# Altium schematic symbol library IS12.01.02.SCHLIB: 65 symbols
Pins are listed as number, name and electrical type; pins without a type are passive.

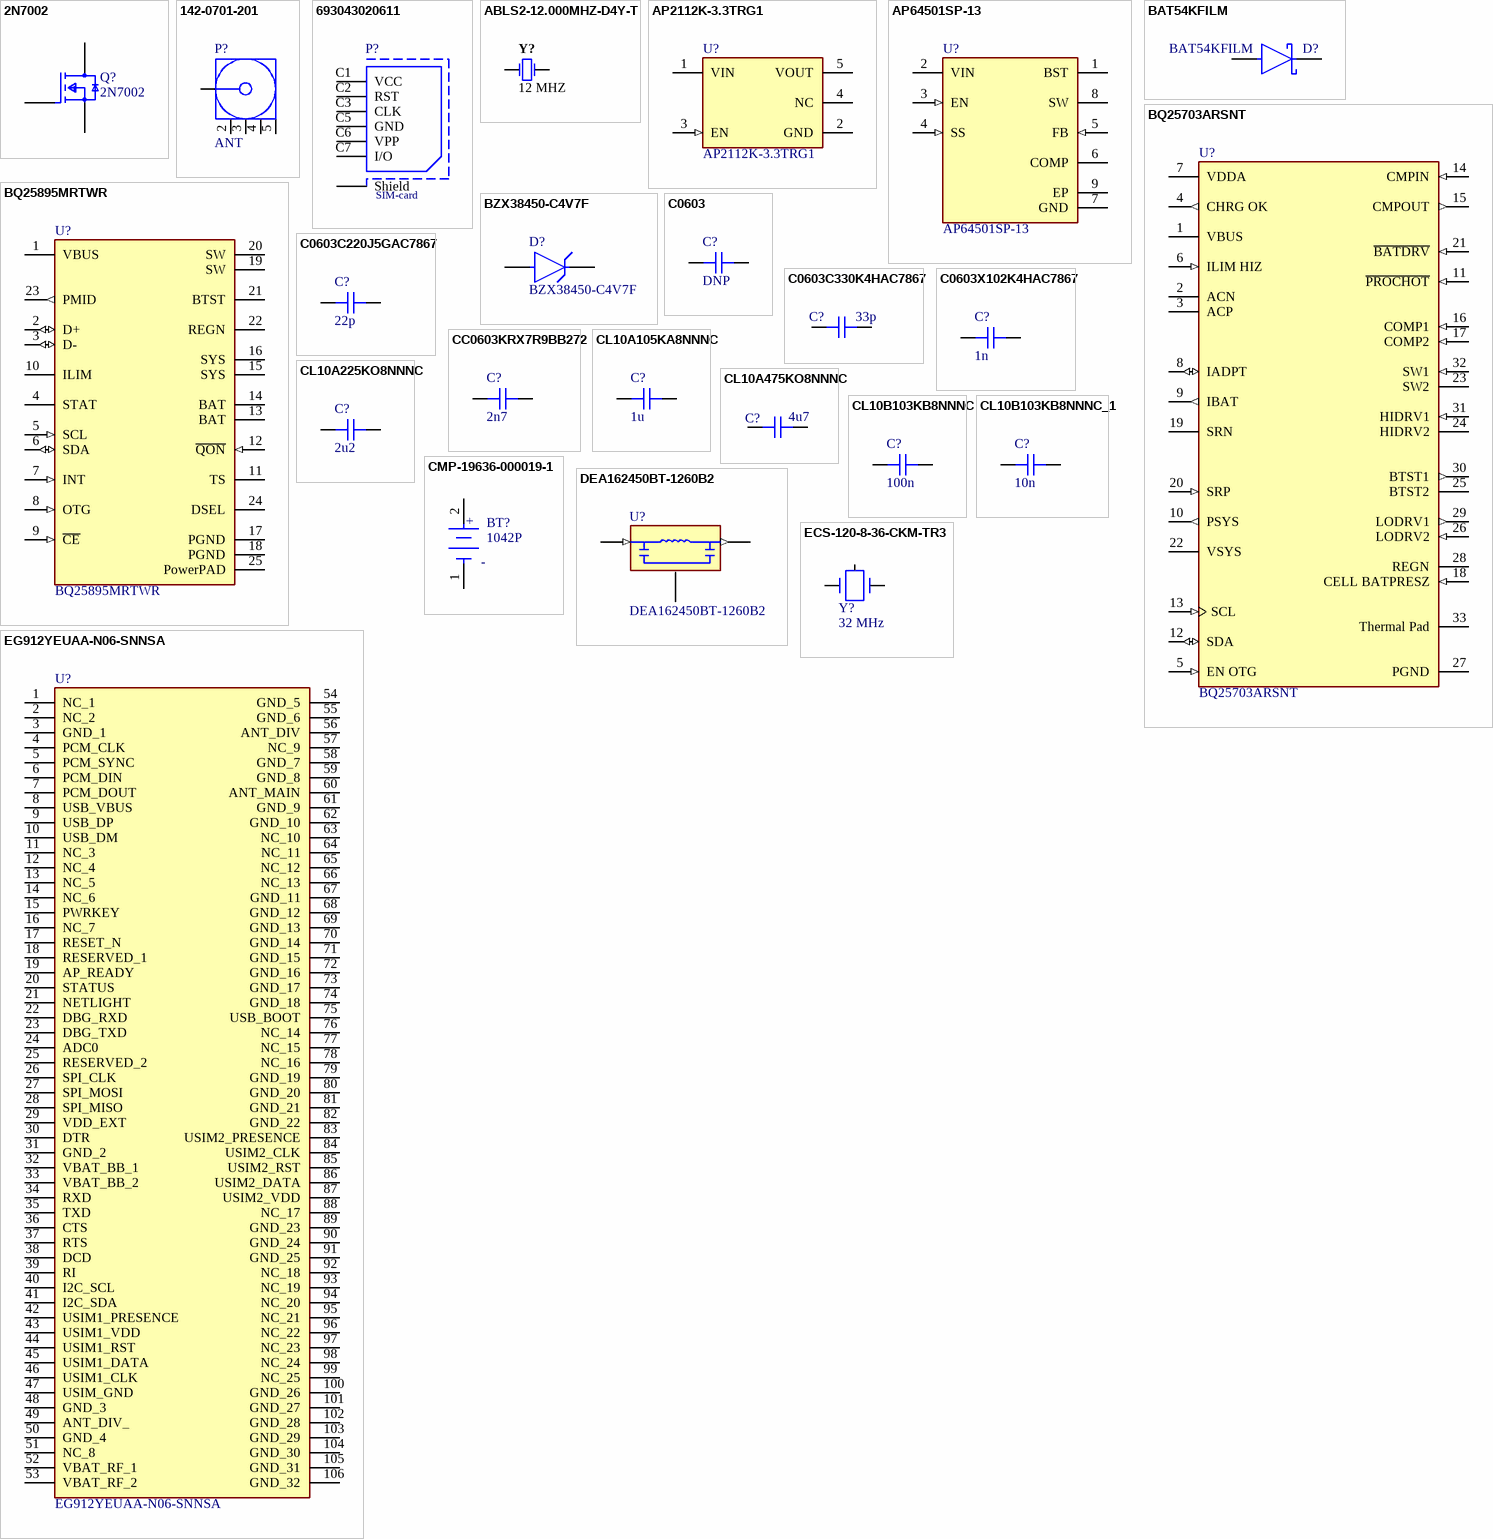
[diagram p0: symbols 2N7002 to EG912YEUAA-N06-SNNSA]

## 2N7002
designator Q?
MOSFET SOT23 N 60V 5OHM 150C; Manufacturer: Infineon; Manufacturer Part Number: IRLML2402TRPBF; Max Power Dissipation: 540mW; Gate to Source Voltage (Vgs): 12V; Drain to Source Resistance: 350mR; Rise Time: 9.5ns; Threshold Voltage: 700mV; Drain to Source Voltage (Vdss): 20V; Continuous Drain Current (ID): 1.2A; Turn-On Delay Time: 2.5ns; Input Capacitance: 110pF; Element Configuration: Single; Power Dissipation: 540W; Turn-Off Delay Time: 9.7ns; Rds On Max: 250mR; REACH SVHC: No SVHC; Mount: Surface Mount; Packaging: Tape and Reel; Height: 0.04inch; Length: 0.119inch; Contact Plating: Tin; Lead Free: Lead Free; Drain to Source Breakdown Voltage: 20V; Max Dual Supply Voltage: 20V; Number of Pins: 3; Halogen Free: Halogen Free; Max Operating Temperature: 150°C; Case/Package: SOT-23; Min Operating Temperature: -55°C; Width: 0.055inch
footprint FP-Micro3-IPC_B
pins: 1 G, 2 S, 3 D

## 142-0701-201
designator P?, comment ANT
CONN SMA JACK STR 50 OHM PCB; Manufacturer: TE Connectivity; Manufacturer Part Number: 5-1814832-1; Connector Mounting: PCBMount; Connector Body Style: StraightJack; Impedance: 50ohm; Coaxial Termination: Solder; SVHC: NoSVHC(15-Jun-2015); Frequency Max: 3GHz; Product Range: ZDCSeries; Connector Type: SMACoaxial; Datasheet Version: Rev. B1, 03/2011; Package Reference: 5-1814832-1; Package Description: SMA Connector, Pitch 5.08 mm, 1 Position, Height 9.5 mm, Tail Length 4 mm; Contact Plating: GoldPlatedContacts; Coaxial Cable Types: -; Contact Material: BerylliumCopper; Manufacturer URL: http://www.te.com/; Datasheet URL: http://www.onlinecomponents.com/productFiles/mf-AMP/eng_cd_1814832_a.pdf
footprint FP-142-0701-201-MFG (Footprint not found)
pins: 1, 2, 3, 4, 5

## 693043020611
designator P?, comment SIM-card
CONN SMART CARD PUSH-PULL; Manufacturer: Wurth Electronics; Part Number: 693043020611; Rated Current: 1A; Working Voltage: 15VAC; Withstanding Voltage: 500VAC; Datasheet URL: https://katalog.we-online.de/em/datasheet/693043020611.pdf; Operating Temperature: -25to85degC; Packaging: TapeandReel; Package Reference: 693043020611; Publisher: WurthElektronik; Manufacturer URL: http://www.we-online.de; Mounting Technology: SMT; Manufacturer Part Number: 693043020611
footprint 693043020611 (Nano SIM Card Connector Push & Pull - 6 Pins)
pins: C1 VCC, C2 RST, C3 CLK, C5 GND, C6 VPP, C7 I/O, Shield

## ABLS2-12.000MHZ-D4Y-T
designator Y?, comment 12 MHZ
CRYSTAL 12.0000MHZ 18PF SMD; Manufacturer: Fox Electronics; Manufacturer Part Number: FOXSLF/160-20; Voltage Rating: 250 V; Tolerance: 1%; Resistance: 221 kohm; Case\Package: Axial; Power Rating: 250 mW; RoHSCompliant: true; Package Quantity: 200; Packaging: Bulk; Min Operating Temperature: -55 degC; DatasheetVersion: Mar-15; ComponentLink1URL: http://www.foxonline.com/; Max Operating Temperature: 155 degC; PackageReference: FOXSLF160-20; Mount: Through Hole; PackageDescription: 2-Pin Through Hole Device, Body 11.35 x 4.65 mm; ComponentLink1Description: Manufacturer URL; ComponentLink2URL: http://www.foxonline.com/pdfs/hc49slf.pdf; ComponentLink2Description: Datasheet; Length: 0.248 inch
footprint FOX-FOXSLF160-20 (THD, 2-Leads, Body 11.35x4.65mm)
pins: 1, 2

## AP2112K-3.3TRG1
designator U?
IC REG LINEAR 3.3V 600MA SOT25; Manufacturer: Diodes; Number of Regulators: 1; Output Type: Fixed; Polarity: Positive; Min Input Voltage: 2.5V; Max Input Voltage: 6V; Accuracy: 1.5%; Quiescent Current: 55uA; Dropout Voltage: 250mV; Min Operating Temperature: -40°C; Length: 3.1mm; Output Current: 600mA; Max Operating Temperature: 85°C; Package Quantity: 1; Output Voltage: 3.3V; Width: 1.7mm; Number of Outputs: 1; Packaging: Tape and Reel; Height: 1.3mm; Lead Free: Lead Free; Max Output Current: 600mA; Case/Package: SOT-23-5; Mount: Surface Mount; Number of Pins: 5; Manufacturer Part Number: AP2112K-3.3TRG1
footprint SOT95P285X140-5N
pins: 1 VIN (power), 2 GND (power), 3 EN (in), 4 NC, 5 VOUT (power)

## AP64501SP-13
designator U?
IC REG BUCK ADJUSTABLE 5A 8SO; Manufacturer: Diodes; Manufacturer Part Number: AP64501SP-13
footprint SOIC127P600X170-9N (Footprint not found)
pins: 1 BST, 2 VIN (power), 3 EN (in), 4 SS (in), 5 FB (in), 6 COMP, 7 GND (power), 8 SW, 9 EP

## BAT54KFILM
designator D?
DIODE SCHOTTKY 40V 300MA SOD523; Manufacturer: STMicroelectronics; Capacitance: 7pF; Value: 7pF; Max Surge Forward Current: 1.25A; Peak Reverse Current: 1uA; Max Junction Temp: +150°C; Device Class L2: Diodes; Temperature Range Low: -40°C; Category: Diode; Manufacturer Part Number: BAT54KFILM; Digikey Description: DIODE SCHOTTKY 40V 300MA SOD523; Device Class L3: Schottky Diodes; Automotive: No; Height: 0.7mm; Octopart: https://octopart.com/bat54kfilm-stmicroelectronics-39618022; ComponentLink2Description: Datasheet; Temperature Range High: +150°C; Device Class L1: Discrete Semiconductors; Max Repetitive Reverse Voltage: 40V; RoHS: TRUE; Temperature: -40°C to +150°C; ComponentLink2URL: https://www.st.com/content/ccc/resource/technical/document/datasheet/07/50/54/f2/0d/ba/4a/79/CD00001322.pdf/files/CD00001322.pdf/jcr:content/translations/en.CD00001322.pdf; Lead Free: Yes; Forward Current: 300mA; Package: SOD-523; Mouser Description: Schottky Diodes & Rectifiers schottky diode
footprint SOD-523
pins: 1 C, 2 A

## BQ25703ARSNT
designator U?
IC BAT MON MULT-CHEM 1-4C 32WQFN; Manufacturer: Texas Instruments; Output Current: 6.35A; Min Supply Voltage: 3.5V; Standoff Height: 0mm; Max Supply Voltage: 24V; Max Junction Temp: +125°C; Output Voltage: 19.2V; Number Of Cells: 4; Octopart: https://octopart.com/bq25703arsnt-texas+instruments-81848930; Ambient Temperature Range Low: -40°C; Ambient Temperature Range High: +85°C; Package: RSN0032B; Mouser Description: NVDC I2C Battery Buck-Boost Charge Controller with System Power Monitor & Processor 32-QFN -40 to 85; ComponentLink2Description: Datasheet; RoHS: TRUE; Category: IC; Device Class L1: Integrated Circuits (ICs); Temperature: -40°C to +125°C; Digikey Description: IC BATT MON MULTI-CHEM 32WQFN; Height: 0.8mm; ComponentLink2URL: http://www.ti.com/lit/ds/symlink/bq25703a.pdf; Temperature Range Low: -40°C; Device Class L3: Battery Management; Automotive: No; Device Class L2: Power Management ICs; Lead Free: Yes; Temperature Range High: +125°C; Manufacturer Part Number: BQ25703ARSNT
footprint QFN50P400X400X80-25N
pins: 1 VBUS (power), 2 ACN (power), 3 ACP (power), 4 CHRG OK (out), 5 EN OTG (in), 6 ILIM HIZ (in), 7 VDDA (power), 8 IADPT (io), 9 IBAT (out), 10 PSYS (out), 11 ~{PROCHOT} (in), 12 SDA (io), 13 SCL (in), 14 CMPIN (in), 15 CMPOUT (out), 16 COMP1 (in), 17 COMP2 (in), 18 CELL BATPRESZ (in), 19 SRN (power), 20 SRP (in), 21 ~{BATDRV} (in), 22 VSYS (power), 23 SW2 (power), 24 HIDRV2 (power), 25 BTST2 (power), 26 LODRV2 (in), 27 PGND (power), 28 REGN (power), 29 LODRV1 (out), 30 BTST1 (out), 31 HIDRV1 (in), 32 SW1 (in), 33 Thermal Pad (power)

## BQ25895MRTWR
designator U?
IC BATT CHG LI-ION 1CELL 24WQFN; Manufacturer: Texas Instruments; Max Charge Current: 5A; Output Voltage: 5.5V; Interface: I2C; Number of Cells: 1; Fault Protection: Over Temperature; Max Supply Voltage: 14V; Max Operating Temperature: 85°C; Mount: Surface Mount; Contact Plating: Gold; Min Operating Temperature: -40°C; Output Current: 5A; RoHS Compliant: Yes; Lead Free: Lead Free; Packaging: Cut Tape; Number of Pins: 24; Manufacturer Part Number: BQ25895MRTWR
footprint QFN50P400X400X80-25N
pins: 1 VBUS (power), 2 D+ (io), 3 D- (io), 4 STAT (oc), 5 SCL (in), 6 SDA (io), 7 INT (in), 8 OTG (in), 9 ~{CE} (in), 10 ILIM, 11 TS, 12 ~{QON} (in), 13 BAT, 14 BAT, 15 SYS, 16 SYS, 17 PGND (power), 18 PGND (power), 19 SW, 20 SW, 21 BTST, 22 REGN, 23 PMID (out), 24 DSEL (oc), 25 PowerPAD (power)

## BZX38450-C4V7F
designator D?
BZX38450-C4V7/SOD323/SOD2; Manufacturer: Nexperia; Manufacturer Part Number: BZX384-C5V1,115
footprint FP-SOD323-MFG
pins: 1 C, 2 A

## C0603
designator C?, comment DNP
CAP CER DNP 16V X8R 0603; Supplier 1: Digi-Key; Supplier Part Number 1: 1276-2368-1-ND
footprint C-0603
pins: 1, 2

## C0603C220J5GAC7867
designator C?, comment 22p
CAP CER 22PF 50V C0G/NP0 0603; Supplier 1: Digi-Key; Supplier Part Number 1: 1276-2368-1-ND
footprint C-0603
pins: 1, 2

## C0603C330K4HAC7867
designator C?, comment 33p
CAP CER 33PF 16V X8R 0603; Supplier 1: Digi-Key; Supplier Part Number 1: 1276-2368-1-ND
footprint C-0603
pins: 1, 2

## C0603X102K4HAC7867
designator C?, comment 1n
CAP CER 0603 1NF 16V ULTRA STABL; Supplier 1: Digi-Key; Supplier Part Number 1: 1276-2368-1-ND
footprint C-0603
pins: 1, 2

## CC0603KRX7R9BB272
designator C?, comment 2n7
CAP CER 2700PF 50V X7R 0603; Supplier 1: Digi-Key; Supplier Part Number 1: 1276-2368-1-ND
footprint C-0603
pins: 1, 2

## CL10A105KA8NNNC
designator C?, comment 1u
CAP CER 1UF 25V X5R 0603; Supplier 1: Digi-Key; Supplier Part Number 1: 1276-2368-1-ND
footprint C-0603
pins: 1, 2

## CL10A225KO8NNNC
designator C?, comment 2u2
CAP CER 2.2UF 16V X5R 0603; Supplier 1: Digi-Key; Supplier Part Number 1: 1276-2368-1-ND
footprint C-0603
pins: 1, 2

## CL10A475KO8NNNC
designator C?, comment 4u7
CAP CER 4.7UF 16V X5R 0603; Supplier 1: Digi-Key; Supplier Part Number 1: 1276-2368-1-ND
footprint C-0603
pins: 1, 2

## CL10B103KB8NNNC
designator C?, comment 100n
CAP CER 1000PF 50V X7R 0603; Supplier 1: Digi-Key; Supplier Part Number 1: 1276-2368-1-ND
footprint C-0603
pins: 1, 2

## CL10B103KB8NNNC_1
designator C?, comment 10n
CAP CER 10000PF 50V X7R 0603; Supplier 1: Digi-Key; Supplier Part Number 1: 1276-2368-1-ND
footprint C-0603
pins: 1, 2

## CMP-19636-000019-1
designator BT?, comment 1042P
BATT HOLDER 18650 1 CELL SMD; Manufacturer: Keystone Electronics; Number of Cells: 1; Max Operating Temperature: 145°C; Termination: SMD/SMT; Mount: Surface Mount; Min Operating Temperature: -50°C; Package Quantity: 200; Packaging: Tray; Lead Free: Lead Free; Manufacturer Part Number: 1042P
footprint FP-1042P-MFG
pins: 1 C, 2 A
text: +; -

## DEA162450BT-1260B2
designator U?
RF FILTER BAND PASS 2.45GHZ 0603; MP: DEA162450BT-1288B1; Package: None; Price: None; Value: *; Availability: Unavailable
footprint FIL_DEA162450BT-1288B1 (Footprint not found)
pins: 1 IN (in), 2 GND (power), 3 OUT (out)

## ECS-120-8-36-CKM-TR3
designator Y?, comment 32 MHz
CRYSTAL 12.0000MHZ 8PF SMD; Supplier 1: Digi-Key; Supplier Part Number 1: 535-9116-1-ND
footprint SMD-4 (4.5x3.2) (4.5mm x 3.2mm)
pins: 1, 2, 3

## EG912YEUAA-N06-SNNSA
designator U?
RF TXRX MOD CELLULAR SMD; Manufacturer_Name: Quectel; Geometry.Height: 2.5mm; Manufacturer_Part_Number: EG912YEUAA-N06-SNNSA; Mouser Part Number: 277-EG912YEUAN6SNNSA; Mouser Price/Stock: https://www.mouser.co.uk/ProductDetail/Quectel/EG912YEUAA-N06-SNNSA?qs=zW32dvEIR3tlKTTxnXn4Aw%3D%3D; Arrow Part Number: EG912YEUAA-N06-SNNSA; Arrow Price/Stock: https://www.arrow.com/en/products/eg912yeuaa-n06-snnsa/quectel-wireless-solutions-co-ltd?region=nac; Datasheet Link: *
footprint EG912YEUAAN06SNNSA
pins: 1 NC_1, 2 NC_2, 3 GND_1, 4 PCM_CLK, 5 PCM_SYNC, 6 PCM_DIN, 7 PCM_DOUT, 8 USB_VBUS, 9 USB_DP, 10 USB_DM, 11 NC_3, 12 NC_4, 13 NC_5, 14 NC_6, 15 PWRKEY, 16 NC_7, 17 RESET_N, 18 RESERVED_1, 19 AP_READY, 20 STATUS, 21 NETLIGHT, 22 DBG_RXD, 23 DBG_TXD, 24 ADC0, 25 RESERVED_2, 26 SPI_CLK, 27 SPI_MOSI, 28 SPI_MISO, 29 VDD_EXT, 30 DTR, 31 GND_2, 32 VBAT_BB_1, 33 VBAT_BB_2, 34 RXD, 35 TXD, 36 CTS, 37 RTS, 38 DCD, 39 RI, 40 I2C_SCL, 41 I2C_SDA, 42 USIM1_PRESENCE, 43 USIM1_VDD, 44 USIM1_RST, 45 USIM1_DATA, 46 USIM1_CLK, 47 USIM_GND, 48 GND_3, 49 ANT_DIV_, 50 GND_4, 51 NC_8, 52 VBAT_RF_1, 53 VBAT_RF_2, 54 GND_5, 55 GND_6, 56 ANT_DIV, 57 NC_9, 58 GND_7, 59 GND_8, 60 ANT_MAIN, 61 GND_9, 62 GND_10, 63 NC_10, 64 NC_11, 65 NC_12, 66 NC_13, 67 GND_11, 68 GND_12, 69 GND_13, 70 GND_14, 71 GND_15, 72 GND_16, 73 GND_17, 74 GND_18, 75 USB_BOOT, 76 NC_14, 77 NC_15, 78 NC_16, 79 GND_19, 80 GND_20, 81 GND_21, 82 GND_22, 83 USIM2_PRESENCE, 84 USIM2_CLK, 85 USIM2_RST, 86 USIM2_DATA, 87 USIM2_VDD, 88 NC_17, 89 GND_23, 90 GND_24, 91 GND_25, 92 NC_18, 93 NC_19, 94 NC_20, 95 NC_21, 96 NC_22, 97 NC_23, 98 NC_24, 99 NC_25, 100 GND_26, 101 GND_27, 102 GND_28, 103 GND_29, 104 GND_30, 105 GND_31, 106 GND_32

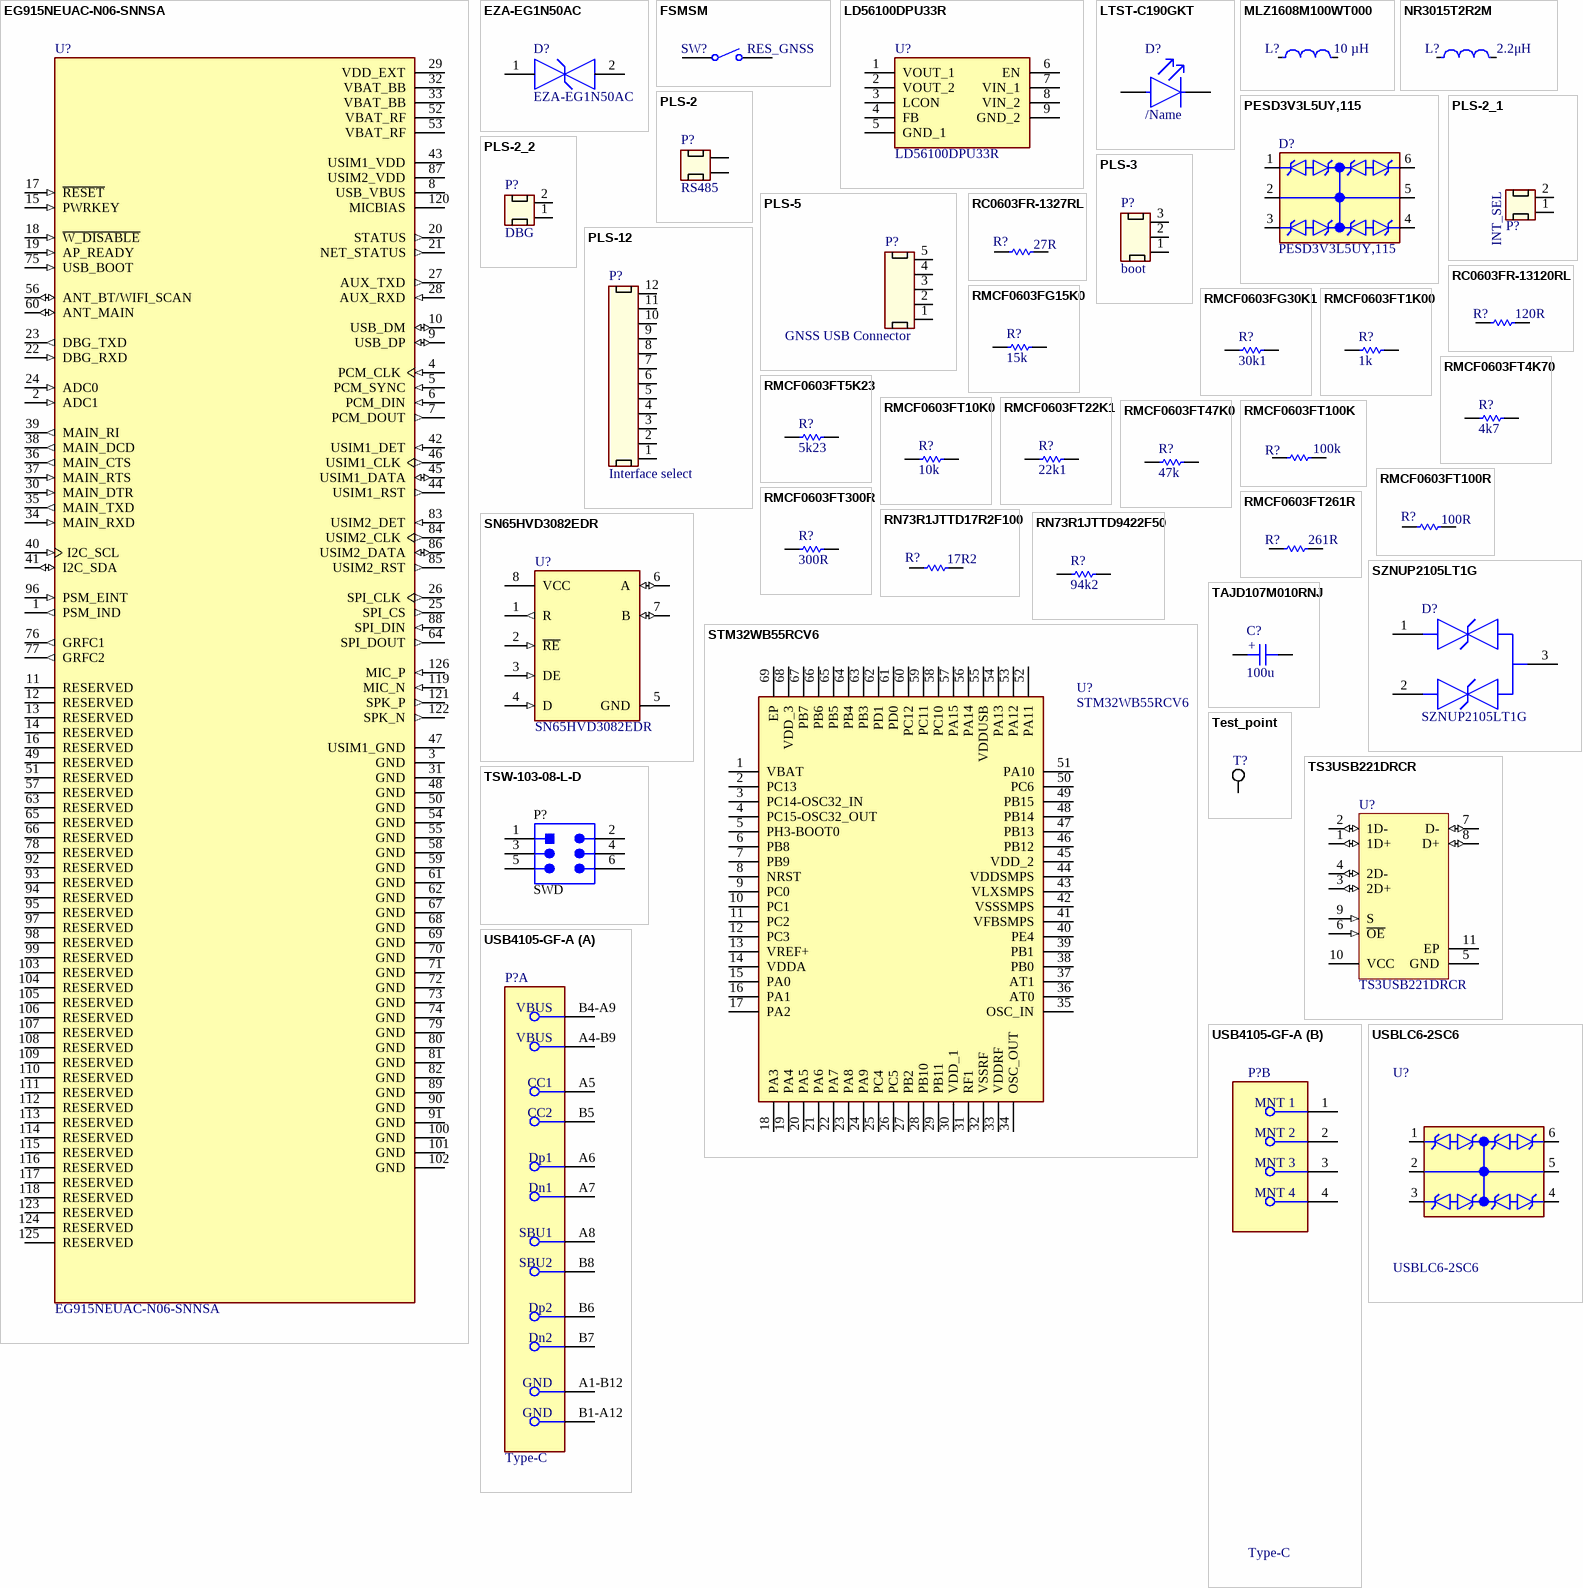
[diagram p1: symbols EG915NEUAC-N06-SNNSA to USBLC6-2SC6]

## EG915NEUAC-N06-SNNSA
designator U?
Linear IC; MF: Quectel; MP: EG915NEUAC-N06-SNNSA; Package: NON-STANDARD-126 Quectel; Availability: In Stock; Value: *; Price: None; Check_prices: https://www.snapeda.com/parts/EG915NEUAC-N06-SNNSA/Quectel/view-part/?ref=eda; SnapEDA_Link: https://www.snapeda.com/parts/EG915NEUAC-N06-SNNSA/Quectel/view-part/?ref=snap
footprint XCVR_EG915NEUAC-N06-SNNSA
pins: 1 PSM_IND (out), 2 ADC1 (in), 3 GND (power), 4 PCM_CLK (in), 5 PCM_SYNC (in), 6 PCM_DIN (in), 7 PCM_DOUT (out), 8 USB_VBUS (power), 9 USB_DP (io), 10 USB_DM (io), 11 RESERVED, 12 RESERVED, 13 RESERVED, 14 RESERVED, 15 PWRKEY (in), 16 RESERVED, 17 ~{RESET} (in), 18 ~{W_DISABLE} (in), 19 AP_READY (in), 20 STATUS (out), 21 NET_STATUS (out), 22 DBG_RXD (in), 23 DBG_TXD (out), 24 ADC0 (in), 25 SPI_CS (out), 26 SPI_CLK (out), 27 AUX_TXD (out), 28 AUX_RXD (in), 29 VDD_EXT (power), 30 MAIN_DTR (in), 31 GND (power), 32 VBAT_BB (power), 33 VBAT_BB (power), 34 MAIN_RXD (in), 35 MAIN_TXD (out), 36 MAIN_CTS (out), 37 MAIN_RTS (in), 38 MAIN_DCD (out), 39 MAIN_RI (out), 40 I2C_SCL (in), 41 I2C_SDA (io), 42 USIM1_DET (in), 43 USIM1_VDD (power), 44 USIM1_RST (out), 45 USIM1_DATA (io), 46 USIM1_CLK (out), 47 USIM1_GND (power), 48 GND (power), 49 RESERVED, 50 GND (power), 51 RESERVED, 52 VBAT_RF (power), 53 VBAT_RF (power), 54 GND (power), 55 GND (power), 56 ANT_BT/WIFI_SCAN (io), 57 RESERVED, 58 GND (power), 59 GND (power), 60 ANT_MAIN (io), 61 GND (power), 62 GND (power), 63 RESERVED, 64 SPI_DOUT (out), 65 RESERVED, 66 RESERVED, 67 GND (power), 68 GND (power), 69 GND (power), 70 GND (power), 71 GND (power), 72 GND (power), 73 GND (power), 74 GND (power), 75 USB_BOOT (in), 76 GRFC1 (out), 77 GRFC2 (out), 78 RESERVED, 79 GND (power), 80 GND (power), 81 GND (power), 82 GND (power), 83 USIM2_DET (in), 84 USIM2_CLK (out), 85 USIM2_RST (out), 86 USIM2_DATA (io), 87 USIM2_VDD (power), 88 SPI_DIN (in), 89 GND (power), 90 GND (power), 91 GND (power), 92 RESERVED, 93 RESERVED, 94 RESERVED, 95 RESERVED, 96 PSM_EINT (in), 97 RESERVED, 98 RESERVED, 99 RESERVED, 100 GND (power), 101 GND (power), 102 GND (power), 103 RESERVED, 104 RESERVED, 105 RESERVED, 106 RESERVED, 107 RESERVED, 108 RESERVED, 109 RESERVED, 110 RESERVED, 111 RESERVED, 112 RESERVED, 113 RESERVED, 114 RESERVED, 115 RESERVED, 116 RESERVED, 117 RESERVED, 118 RESERVED, 119 MIC_N (in), 120 MICBIAS (power), 121 SPK_P (out), 122 SPK_N (out), 123 RESERVED, 124 RESERVED, 125 RESERVED, 126 MIC_P (in)

## EZA-EG1N50AC
designator D?
ESD SUPPRESSOR 0201; Manufacturer: Panasonic; Varistor Voltage: 30V; Number of Circuits: 1; Series: -; Case Code (Imperial): 0201; Packaging: Cut Tape; Mount: Surface Mount; Case/Package: 0201; Case Code (Metric): 0603; Manufacturer Part Number: EZA-EG1N50AC
footprint FP-EZAEG1-MFG
pins: 1, 2

## FSMSM
designator SW?, comment RES_GNSS
SWITCH TACTILE SPST-NO 0.05A 24V; Manufacturer: TE Connectivity; Manufacturer Part Number: FSMSMTR; Electrical Life: 20000Cycles; Operating Force: 180gf; Switch Travel: 0.25mm; Contact Current Rating: 50mA; Case\/Package: SMD/SMT; Actuator Length: 1.07mm; Throw Configuration: SPST; Actuator Material: Polyamide; Contact Resistance: 100mOhm; Illumination Type: Illuminated; Max Voltage Rating (DC): 12V; Voltage Rating (DC): 24V; Manufacturer URL: http://www.te.com/; Lead Free: LeadFree; Packaging: TapeandReel; Min Operating Temperature: -35degC; Mechanical Life: 20000Cycles; Mount: SurfaceMount; REACH SVHC: Unknown; Package Quantity: 1800; Package Reference: FSMSMTR; RoHSCompliant: true; Max Operating Temperature: 85degC; Orientation: Straight; ELV: Compliant; Datasheet URL: http://www.te.com/commerce/DocumentDelivery/DDEController?Action=showdoc&DocId=Customer+Drawing%7F1437566-3%7FC2%7Fpdf%7FEnglish%7FENG_CD_1437566-3_C2_1437566_3_1_c.dwg.pdf%7F1437566-4; Package Description: 2-Pin Surface Mount Device, Body 6 x 3.5 mm, Pitch 9.19 mm; Current Rating: 50mA; Contact Plating: Silver; Termination: GullWing; Datasheet Version: Rev. C2, 08/2014; Contact Material: Brass; Mounting Technology: SurfaceMount
footprint TECO-FSMSMTR_V (SMD, 2-Leads, Body 6x3.5mm, Pitch 9.19mm)
pins: 1, 2

## LD56100DPU33R
designator U?
IC REG LINEAR 3.3V 1A 8DFN; Manufacturer_Name: STMicroelectronics; Geometry.Height: 1mm; Mouser Part Number: 511-LD56100DPU33R; Mouser Price/Stock: https://www.mouser.co.uk/ProductDetail/STMicroelectronics/LD56100DPU33R?qs=lYGu3FyN48ervycZizbDLw%3D%3D; Manufacturer_Part_Number: LD56100DPU33R; Datasheet Link: https://componentsearchengine.com/Datasheets/1/LD56100DPU33R.pdf
footprint LD56100DPU33R
pins: 1 VOUT_1, 2 VOUT_2, 3 LCON, 4 FB, 5 GND_1, 6 EN, 7 VIN_1, 8 VIN_2, 9 GND_2

## LTST-C190GKT
designator D?, comment /Name
LED GREEN CLEAR CHIP SMD; Manufacturer: Vishay Lite-On; Manufacturer Part Number: LTST-C191TBKT; Lens Color: Colorless; Dominant Wavelength: 475nm; Forward Current: 20mA; Wavelength: 468nm; Viewing Angle: 130°; Power Dissipation: 76mW; Illumination Color: Blue; Luminous Intensity: 180mcd; Reverse Voltage: 5V; Number of Elements: 1; Lens Style: Diffused; Forward Voltage: 3.8V; Max Power Dissipation: 75mW; Case Code (Metric): 1608; Packaging: Tape and Reel; Case/Package: 0603; Depth: 1.6mm; Mount: Surface Mount; Lead Free: Lead Free; Min Operating Temperature: -20°C; Lens Transparency: Clear; Height: 0.55mm; Test Current: 20mA; Case Code (Imperial): 0603; Max Operating Temperature: 80°C; Number of Pins: 2; Length: 0.8mm; Radiation Hardening: No; Package Quantity: 1; Number of LEDs: 1; Width: 0.8mm; Color: Blue
footprint FP-LTST-C191TBKT-MFG
pins: 1 C, 2 A

## MLZ1608M100WT000
designator L?, comment 10 µH
FIXED IND 10UH 250MA 1.05OHM SMD; Manufacturer: Taiyo Yuden; Manufacturer Part Number: LBMF1608T100M; Current Rating: 80mA; Shielding: Unshielded; Self Resonant Frequency: 32MHz; Core Material: Ferrite; Tolerance: 20%; DC Resistance (DCR): 360mR; Test Frequency: 2.52MHz; Inductance: 10uH; Min Operating Temperature: -40°C; Halogen Free: Halogen Free; Termination: SMD/SMT; Height - Seated (Max): 0.039inch; Case Code (Metric): 1608; DC Current: 80mA; Resistor Type: Wirewound; Lead Free: Lead Free; Radiation Hardening: No; Packaging: Tape and Reel; Length: 0.063inch; Lead Pitch: 0.7mm; Series: LB; Max Operating Temperature: 105°C; Weight: 7.1E-05oz; Height: 0.35mm; Military Standard: Not; Case Code (Imperial): 0603; Case/Package: 0603; Depth: 0.9mm; RoHS Compliant: Yes; Mount: Surface Mount; Width: 0.031inch; Max DC Current: 80mA
footprint FP-MLZ1608-IPC_A (Footprint not found)
pins: 1, 2

## NR3015T2R2M
designator L?, comment 2.2μH
FIXED IND 2.2UH 1.5A 72 MOHM SMD; Manufacturer: Taiyo Yuden; Manufacturer Part Number: NR6028T2R2N; Core Material: Ferrite; RMS Current (Irms): 3.7A; Tolerance: 30%; Test Frequency: 100kHz; DC Resistance (DCR): 26mR; Saturation Current: 4.2A; Self Resonant Frequency: 68MHz; Shielding: Shielded; Width: 0.236inch; Package Quantity: 2000; Case/Package: 2424; Length: 0.236inch; Height: 2.8mm; Height - Seated (Max): 0.11inch; Current Rating: 3.7A; Termination: SMD/SMT; Inductance Tolerance: 30%; Depth: 6.2mm; Halogen Free: Halogen Free; Mount: Surface Mount; Series: NR; Max DC Current: 3.7A; Number of Pins: 2; Min Operating Temperature: -25°C; Inductance: 2.2uH; Max Operating Temperature: 120°C; Packaging: Tape and Reel; Radiation Hardening: No; RoHS Compliant: Yes; Resistor Type: Wirewound
footprint FP-NR3015-MFG
pins: 1, 2

## PESD3V3L5UY,115
designator D?
TVS DIODE 3.3VWM 12VC 6TSSOP; MP: ESDA6V1BC6; MF: STMicroelectronics; Check_prices: https://www.snapeda.com/parts/ESDA6V1BC6/STMicroelectronics/view-part/?ref=eda; Price: None; Purchase-URL: https://pricing.snapeda.com/search/part/ESDA6V1BC6/?ref=eda; SnapEDA_Link: https://www.snapeda.com/parts/ESDA6V1BC6/STMicroelectronics/view-part/?ref=snap; Availability: In Stock; Package: SOT-23-6 STMicroelectronics; Value: *
footprint SOT95P280X145-6N
pins: 1 C1, 2 CC1, 3 C2, 4 C3, 5 CC2, 6 C4

## PLS-2
designator P?, comment RS485
PLS-2, вилка штыревая 2.54мм
footprint PLS-2
pins: 1, 2

## PLS-2_1
designator P?, comment INT_SEL
PLS-2, вилка штыревая 2.54мм
footprint PLS-2
pins: 1, 2

## PLS-2_2
designator P?, comment DBG
PLS-2, вилка штыревая 2.54мм
footprint PLS-2
pins: 1, 2

## PLS-3
designator P?, comment boot
PLS-3, вилка штыревая 2.54мм
footprint PLS-3
pins: 1, 2, 3

## PLS-5
designator P?, comment GNSS USB Connector
PLS-5, вилка штыревая 2.54мм
footprint PLS-5
pins: 1, 2, 3, 4, 5

## PLS-12
designator P?, comment Interface select
PLS-12, вилка штыревая 2.54мм
footprint PLS-12
pins: 1, 2, 3, 4, 5, 6, 7, 8, 9, 10, 11, 12

## RC0603FR-1327RL
designator R?, comment 27R
RES 27 OHM 1% 1/10W 0603; Supplier 1: Digi-Key; Supplier Part Number 1: 541-4.7KSACT-ND
footprint R-0603 (Chip Capacitor, 2-Leads, Body 1,60x0,83mm, IPC Medium Density)
pins: 1, 2

## RC0603FR-13120RL
designator R?, comment 120R
RES 120 OHM 1% 1/10W 0603v; Supplier 1: Digi-Key; Supplier Part Number 1: 541-4.7KSACT-ND
footprint R-0603 (Chip Capacitor, 2-Leads, Body 1,60x0,83mm, IPC Medium Density)
pins: 1, 2

## RMCF0603FG15K0
designator R?, comment 15k
RES 15K OHM 1% 1/10W 0603; Supplier 1: Digi-Key; Supplier Part Number 1: 541-4.7KSACT-ND
footprint R-0603 (Chip Capacitor, 2-Leads, Body 1,60x0,83mm, IPC Medium Density)
pins: 1, 2

## RMCF0603FG30K1
designator R?, comment 30k1
RES 30.1K OHM 1% 1/10W 0603; Supplier 1: Digi-Key; Supplier Part Number 1: 541-4.7KSACT-ND
footprint R-0603 (Chip Capacitor, 2-Leads, Body 1,60x0,83mm, IPC Medium Density)
pins: 1, 2

## RMCF0603FT1K00
designator R?, comment 1k
RES 1K OHM 1% 1/10W 0603; Supplier 1: Digi-Key; Supplier Part Number 1: 541-4.7KSACT-ND
footprint R-0603 (Chip Capacitor, 2-Leads, Body 1,60x0,83mm, IPC Medium Density)
pins: 1, 2

## RMCF0603FT4K70
designator R?, comment 4k7
RES 4.7K OHM 1% 1/10W 0603; Supplier 1: Digi-Key; Supplier Part Number 1: 541-4.7KSACT-ND
footprint R-0603 (Chip Capacitor, 2-Leads, Body 1,60x0,83mm, IPC Medium Density)
pins: 1, 2

## RMCF0603FT5K23
designator R?, comment 5k23
RES 5.23K OHM 1% 1/10W 0603; Supplier 1: Digi-Key; Supplier Part Number 1: 541-4.7KSACT-ND
footprint R-0603 (Chip Capacitor, 2-Leads, Body 1,60x0,83mm, IPC Medium Density)
pins: 1, 2

## RMCF0603FT10K0
designator R?, comment 10k
RES 10K OHM 1% 1/10W 0603; Supplier 1: Digi-Key; Supplier Part Number 1: 541-4.7KSACT-ND
footprint R-0603 (Chip Capacitor, 2-Leads, Body 1,60x0,83mm, IPC Medium Density)
pins: 1, 2

## RMCF0603FT22K1
designator R?, comment 22k1
RES 22.1K OHM 1% 1/10W 0603; Supplier 1: Digi-Key; Supplier Part Number 1: 541-4.7KSACT-ND
footprint R-0603 (Chip Capacitor, 2-Leads, Body 1,60x0,83mm, IPC Medium Density)
pins: 1, 2

## RMCF0603FT47K0
designator R?, comment 47k
RES 47K OHM 1% 1/10W 0603; Supplier 1: Digi-Key; Supplier Part Number 1: 541-4.7KSACT-ND
footprint R-0603 (Chip Capacitor, 2-Leads, Body 1,60x0,83mm, IPC Medium Density)
pins: 1, 2

## RMCF0603FT100K
designator R?, comment 100k
RES 100K OHM 1% 1/10W 0603; Supplier 1: Digi-Key; Supplier Part Number 1: 541-4.7KSACT-ND
footprint R-0603 (Chip Capacitor, 2-Leads, Body 1,60x0,83mm, IPC Medium Density)
pins: 1, 2

## RMCF0603FT100R
designator R?, comment 100R
RES 100 OHM 1% 1/10W 0603; Supplier 1: Digi-Key; Supplier Part Number 1: 541-4.7KSACT-ND
footprint R-0603 (Chip Capacitor, 2-Leads, Body 1,60x0,83mm, IPC Medium Density)
pins: 1, 2

## RMCF0603FT261R
designator R?, comment 261R
RES 261 OHM 1% 1/10W 0603; Supplier 1: Digi-Key; Supplier Part Number 1: 541-4.7KSACT-ND
footprint R-0603 (Chip Capacitor, 2-Leads, Body 1,60x0,83mm, IPC Medium Density)
pins: 1, 2

## RMCF0603FT300R
designator R?, comment 300R
RES 300 OHM 1% 1/10W 0603; Supplier 1: Digi-Key; Supplier Part Number 1: 541-4.7KSACT-ND
footprint R-0603 (Chip Capacitor, 2-Leads, Body 1,60x0,83mm, IPC Medium Density)
pins: 1, 2

## RN73R1JTTD17R2F100
designator R?, comment 17R2
RES 17.2 OHM 1% 1/10W 0603; Supplier 1: Digi-Key; Supplier Part Number 1: 541-4.7KSACT-ND
footprint R-0603 (Chip Capacitor, 2-Leads, Body 1,60x0,83mm, IPC Medium Density)
pins: 1, 2

## RN73R1JTTD9422F50
designator R?, comment 94k2
RES 94.2K OHM 1% 1/10W 0603; Supplier 1: Digi-Key; Supplier Part Number 1: 541-4.7KSACT-ND
footprint R-0603 (Chip Capacitor, 2-Leads, Body 1,60x0,83mm, IPC Medium Density)
pins: 1, 2

## SN65HVD3082EDR
designator U?
IC TRANSCEIVER HALF 1/1 8SOIC; Manufacturer: Texas Instruments; Data Rate: 0.2Mbits/s; Standoff Height: 0.11mm; Max Junction Temp: +130°C; Number Of Transmitters: 1; Nominal Supply Current: 300-425uA; Min Supply Voltage: 4.5V; Simplex Duplex: Half Duplex; Max Supply Voltage: 5.5V; Interface: RS-485,RS-422; Lead Free: Yes; Temperature Range High: +85°C; Ambient Temperature Range High: +105°C; Octopart: https://octopart.com/sn65hvd3082edr-texas+instruments-712058; Automotive: No; Ambient Temperature Range Low: -40°C; RoHS: TRUE; Device Class L2: Interface ICs; Mouser Description: RS-485 Interface IC Low-Power RS-485 Transceiver; Package: D0008A; Digikey Description: IC TRANSCEIVER HALF 1/1 8SOIC; Device Class L1: Integrated Circuits (ICs); Height: 1.75mm; ComponentLink2Description: Datasheet; Category: IC; Temperature Range Low: -40°C; Number Of Receivers: 1; Device Class L3: RS-232 / RS-422 / RS-485 Interface ICs; Ipc Land Pattern Name: SOIC127P600X175-8; ComponentLink2URL: http://www.ti.com/lit/ds/symlink/sn65hvd3082e.pdf; Temperature: -40°C to +85°C; Manufacturer Part Number: SN65HVD3082EDR
footprint FP-SO-8-MFG
pins: 1 R (out), 2 ~{RE} (in), 3 DE (in), 4 D (in), 5 GND (power), 6 A (io), 7 B (io), 8 VCC (power)

## STM32WB55RCV6
designator U?
ULTRA-LOW-POWER DUAL CORE ARM CO; Manufacturer_Name: STMicroelectronics; Geometry.Height: 1mm; Manufacturer_Part_Number: STM32WB55RCV6; Mouser Part Number: 511-STM32WB55RCV6; Mouser Price/Stock: https://www.mouser.co.uk/ProductDetail/STMicroelectronics/STM32WB55RCV6?qs=vLWxofP3U2y%2F21YKkPUpfQ%3D%3D; Arrow Part Number: STM32WB55RCV6; Arrow Price/Stock: https://www.arrow.com/en/products/stm32wb55rcv6/stmicroelectronics?region=nac; Datasheet Link: https://www.mouser.com/datasheet/2/389/stm32wb55rc-1588898.pdf
footprint QFN40P800X800X100-69N-D
pins: 1 VBAT, 2 PC13, 3 PC14-OSC32_IN, 4 PC15-OSC32_OUT, 5 PH3-BOOT0, 6 PB8, 7 PB9, 8 NRST, 9 PC0, 10 PC1, 11 PC2, 12 PC3, 13 VREF+, 14 VDDA, 15 PA0, 16 PA1, 17 PA2, 18 PA3, 19 PA4, 20 PA5, 21 PA6, 22 PA7, 23 PA8, 24 PA9, 25 PC4, 26 PC5, 27 PB2, 28 PB10, 29 PB11, 30 VDD_1, 31 RF1, 32 VSSRF, 33 VDDRF, 34 OSC_OUT, 35 OSC_IN, 36 AT0, 37 AT1, 38 PB0, 39 PB1, 40 PE4, 41 VFBSMPS, 42 VSSSMPS, 43 VLXSMPS, 44 VDDSMPS, 45 VDD_2, 46 PB12, 47 PB13, 48 PB14, 49 PB15, 50 PC6, 51 PA10, 52 PA11, 53 PA12, 54 PA13, 55 VDDUSB, 56 PA14, 57 PA15, 58 PC10, 59 PC11, 60 PC12, 61 PD0, 62 PD1, 63 PB3, 64 PB4, 65 PB5, 66 PB6, 67 PB7, 68 VDD_3, 69 EP

## SZNUP2105LT1G
designator D?
TVS DIODE 24VWM 44VC SOT23-3; Manufacturer: ON Semiconductor; Reverse Standoff Voltage: 24V; Capacitance: 30pF; Max Junction Temp: +150°C; Breakdown Voltage: 26.2V; Number Of Channels: 2; Automotive Grade: Grade 0; Standoff Height: 0.01mm; Peak Pulse Current: 8A; Value: 30pF; Direction: Bidirectional; Peak Pulse Power: 350W; Clamping Voltage: 44V; Octopart: https://octopart.com/sznup2105lt1g-on+semiconductor-22134626; Digikey Description: TVS DIODE 24V 44V SOT23-3; RoHS: TRUE; Manufacturer Part Number: SZNUP2105LT1G; Height: 1.11mm; Automotive: Yes; ComponentLink2URL: https://www.onsemi.com/pub/Collateral/NUP2105L-D.PDF; Device Class L3: unset; Package: 318-08; Lead Free: Yes; Device Class L2: TVS Diodes; Footprint Url: https://www.onsemi.com/pub/Collateral/318-08.PDF; Temperature Range Low: -55°C; Device Class L1: Circuit Protection; Temperature: -55°C to +150°C; Temperature Range High: +150°C; Category: Diode; ComponentLink2Description: Datasheet
footprint FP-Micro3-IPC_B (Footprint not found)
pins: 1, 2, 3

## TAJD107M010RNJ
designator C?, comment 100u
CAP TANT 100UF 20% 10V 2917; Supplier 1: Digi-Key; Supplier Part Number 1: 399-18160-1-ND
footprint A-TANTAL-A
pins: 1, 2
text: +

## Test_point
designator T?  (value not drawn)
Test point (DNP)
footprint test_point
pins: 1

## TS3USB221DRCR
designator U?
IC USB SWITCH DUAL 1X2 10SON; Manufacturer: Texas Instruments; Number of Channels: 2; ON Time(Max)(ns): 30; RON Mis-match(Max)(Ohms): 0.2; Vcc range(V): 2.3 to 3.6; tpd max(ns): 0.25; OFF Time(Max)(ns): 12; ron(max)(ohms): 6; ESD HBM(kV): +/-2; Architecture: "1","2 mux/demux"; Eco-Plan: Green (RoHS & no Sb/Br); RON Flatness(Max)(Ohms): 1; Bandwidth(MHz): 1200; IL OFF(Max)(nA): 2; SubFamily: USB Switch; PackageVersion: revL, Sep-2011; Mounting Technology: Surface Mount; ICC(uA): 30; DatasheetVersion: SCDS220G; PartNumber: TS3USB221DRCR; Charge Injection(Max)(pC): N/A; ComponentLink1Description: Datasheet; PackageDescription: 10-Pin Plastic Small Outline No-Lead, 3 x 3 x 1 mm Body, 0.5 mm Pitch, Exposed Pad; ComponentLink2URL: http://www.ti.com/litv/pdf/mpds117k; ComponentLink2Description: Package Specification; ComponentLink1URL: http://www.ti.com/general/docs/lit/getliterature.tsp?genericPartNumber=TS3USB221&fileType=pdf; PackageReference: DRC0010J; Manufacturer Part Number: TS3USB221DRCR
footprint SON50P300X300X100-11N
pins: 1 1D+ (io) "Bus B", 2 1D- (io) "Bus B", 3 2D+ (io) "Bus B", 4 2D- (io) "Bus B", 5 GND (power) "ground", 6 ~{OE} (in) "Bus-switch enable", 7 D- (io) "Bus A", 8 D+ (io) "Bus A", 9 S (in) "Select input", 10 VCC (power) "supply voltage", 11 EP "Exposed pad"

## TSW-103-08-L-D
designator P?, comment SWD
CONN HEADER VERT 6POS 2.54MM; Manufacturer: Samtec; Manufacturer Part Number: TSW-103-08-L-D; DatasheetVersion: 04/2012; ComponentLink3URL: http://suddendocs.samtec.com/prints/tsw-xxx-xx-x-x-xx-xxx-footprint.pdf; PackageReference: TSW-103-08-L-D; Mounting Technology: Through Hole; Min Operating Temperature: -55 degC; ComponentLink2Description: Datasheet; Lead Pitch: 2.54 mm; ComponentLink1Description: Manufacturer URL; Mount: Through Hole; ComponentLink1URL: http://www.samtec.com/; ComponentLink3Description: Package Specification; Max Operating Temperature: 125 degC; PackageDescription: Male Header, Pitch 2.54 mm, 2 x 3 Position, Height 8.38 mm, Tail Length 5.08 mm; ComponentLink2URL: https://datasheet.ciiva.com/25618/0900766b81154476-25618436.pdf; RoHSCompliant: true
footprint SMTC-TSW-103-08-L-D_V (CONN, 6-Leads, Body 7.62x5.08mm, Pitch 2.54mm)
pins: 1, 2, 3, 4, 5, 6

## USB4105-GF-A
designator P?, comment Type-C
CONN RCP USB2.0 TYP C 24P SMD RA; Manufacturer: Molex; Manufacturer Part Number: 217179-0001
footprint FP-217179-0001-MFG
part A pins: A1-B12 GND (power), A4-B9 VBUS (power), A5 CC1, A6 Dp1, A7 Dn1, A8 SBU1, B1-A12 GND (power), B4-A9 VBUS (power), B5 CC2, B6 Dp2, B7 Dn2, B8 SBU2
part B pins: 1 MNT 1, 2 MNT 2, 3 MNT 3, 4 MNT 4

## USBLC6-2SC6
designator U?
TVS DIODE 5.25VWM 17VC SOT23-6; MF: STMicroelectronics; Value: *; SnapEDA_Link: https://www.snapeda.com/parts/USBLC6-2SC6/STMicroelectronics/view-part/?ref=snap; Check_prices: https://www.snapeda.com/parts/USBLC6-2SC6/STMicroelectronics/view-part/?ref=eda; Purchase-URL: https://pricing.snapeda.com/search/part/USBLC6-2SC6/?ref=eda; Price: None; Availability: In Stock; Package: SOT-23-6 STMicroelectronics; MP: USBLC6-2SC6
footprint SOT95P280X145-6N
pins: 1 C1, 2 CC1, 3 C2, 4 C3, 5 CC2, 6 C4

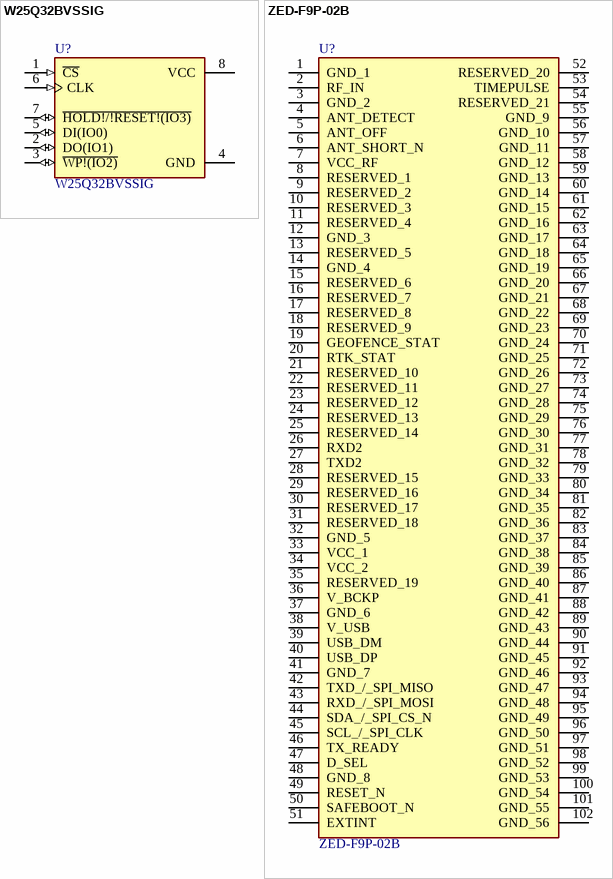
[diagram p2: symbols W25Q32BVSSIG to ZED-F9P-02B]

## W25Q32BVSSIG
designator U?
IC FLASH 32MBIT SPI/QUAD 8SOIC; MF: Winbond Electronics; Availability: Unavailable; SnapEDA_Link: https://www.snapeda.com/parts/W25Q32BVSSIG/Winbond%20Electronics/view-part/552390/?ref=snap; MP: W25Q32BVSSIG; Price: None; Value: *; Package: SOIC-8 Winbond
footprint SOIC127P790X216-8N
pins: 1 ~{CS} (in), 2 DO(IO1) (io), 3 ~{WP!(IO2)} (io), 4 GND (power), 5 DI(IO0) (io), 6 CLK (in), 7 ~{HOLD!/!RESET!(IO3)} (io), 8 VCC (power)

## ZED-F9P-02B
designator U?
MOD RF RECEIVER GNSS 54LGA; Manufacturer_Name: U-Blox; Geometry.Height: 2.6mm; Manufacturer_Part_Number: ZED-F9P-02B; Mouser Part Number: 377-ZED-F9P-02B; Mouser Price/Stock: https://www.mouser.co.uk/ProductDetail/u-blox/ZED-F9P-02B?qs=DPoM0jnrROVJit2O2Grdqw%3D%3D; Arrow Part Number: *; Arrow Price/Stock: *; Datasheet Link: https://www.u-blox.com/sites/default/files/ZED-F9P_DataSheet_%28UBX-17051259%29.pdf
footprint ZEDF9P02B
pins: 1 GND_1, 2 RF_IN, 3 GND_2, 4 ANT_DETECT, 5 ANT_OFF, 6 ANT_SHORT_N, 7 VCC_RF, 8 RESERVED_1, 9 RESERVED_2, 10 RESERVED_3, 11 RESERVED_4, 12 GND_3, 13 RESERVED_5, 14 GND_4, 15 RESERVED_6, 16 RESERVED_7, 17 RESERVED_8, 18 RESERVED_9, 19 GEOFENCE_STAT, 20 RTK_STAT, 21 RESERVED_10, 22 RESERVED_11, 23 RESERVED_12, 24 RESERVED_13, 25 RESERVED_14, 26 RXD2, 27 TXD2, 28 RESERVED_15, 29 RESERVED_16, 30 RESERVED_17, 31 RESERVED_18, 32 GND_5, 33 VCC_1, 34 VCC_2, 35 RESERVED_19, 36 V_BCKP, 37 GND_6, 38 V_USB, 39 USB_DM, 40 USB_DP, 41 GND_7, 42 TXD_/_SPI_MISO, 43 RXD_/_SPI_MOSI, 44 SDA_/_SPI_CS_N, 45 SCL_/_SPI_CLK, 46 TX_READY, 47 D_SEL, 48 GND_8, 49 RESET_N, 50 SAFEBOOT_N, 51 EXTINT, 52 RESERVED_20, 53 TIMEPULSE, 54 RESERVED_21, 55 GND_9, 56 GND_10, 57 GND_11, 58 GND_12, 59 GND_13, 60 GND_14, 61 GND_15, 62 GND_16, 63 GND_17, 64 GND_18, 65 GND_19, 66 GND_20, 67 GND_21, 68 GND_22, 69 GND_23, 70 GND_24, 71 GND_25, 72 GND_26, 73 GND_27, 74 GND_28, 75 GND_29, 76 GND_30, 77 GND_31, 78 GND_32, 79 GND_33, 80 GND_34, 81 GND_35, 82 GND_36, 83 GND_37, 84 GND_38, 85 GND_39, 86 GND_40, 87 GND_41, 88 GND_42, 89 GND_43, 90 GND_44, 91 GND_45, 92 GND_46, 93 GND_47, 94 GND_48, 95 GND_49, 96 GND_50, 97 GND_51, 98 GND_52, 99 GND_53, 100 GND_54, 101 GND_55, 102 GND_56